# Altium footprint library MOLEX SDA-70553-6PIN.PCBLIB: 1 footprints
Each footprint in its own frame and in the unit in brackets; x right, y up, seen from the top. Pads: shape width x height; smd on the part's side, far side on the other; paste and mask are expansions set on the pad; w line width, h text height; cw(c..) or ccw(c..) is an arc to the next point about the centre after c.
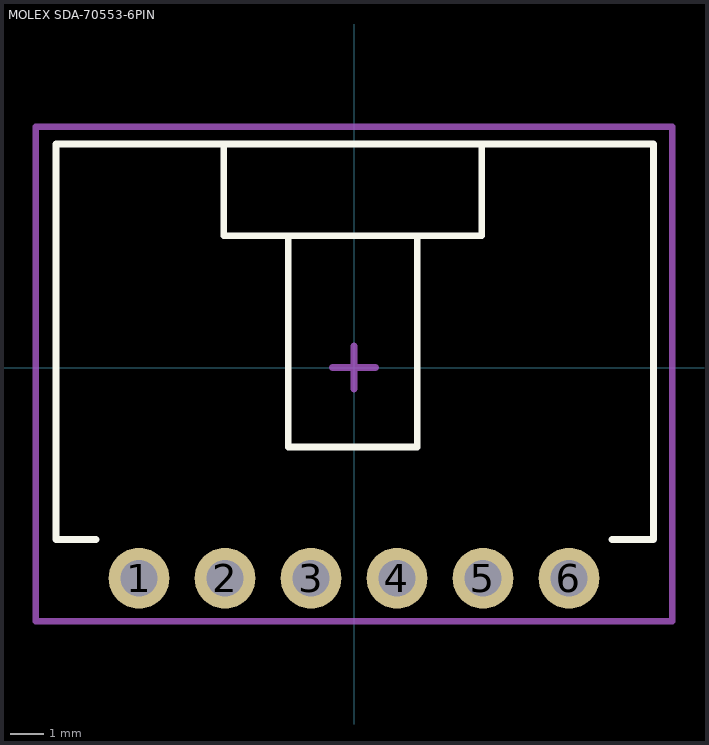
[diagram p0: the footprint, top view; thin cyan lines are the x and y axes]

## MOLEX SDA-70553-6PIN [mm] "SL Right angle header with latch, 0.100 centres, SDA-70553"
height 6.99
pads (6):
  round 1.8 hole 1.09: 1(-6.35,-6.223) 2(-3.81,-6.223) 3(-1.27,-6.223) 4(1.27,-6.223) 5(3.81,-6.223) 6(6.35,-6.223)
Top Overlay:
  lines w0.2: -7.62,-5.08 -8.803,-5.08 -8.803,-4.973 -8.803,6.604 8.85,6.604 8.85,-4.973 8.85,-5.08 7.62,-5.08 ; -3.85,6.55 -3.85,3.892 3.77,3.892 3.77,6.55 ; -1.945,3.892 -1.945,-2.346 1.865,-2.346 1.865,3.892
Mechanical 15:
  lines w0.2: -0.635,0 0.635,0 ; 0,-0.635 0,0.635 ; -9.398,-7.493 9.398,-7.493 9.398,7.112 -9.398,7.112 -9.398,-7.493
3D body "705530005.STEP": height 6.96, standoff -3.32, extent -8.85,-6.973 8.93,6.616